# EAGLE library part OPENMV_H7 (library components)
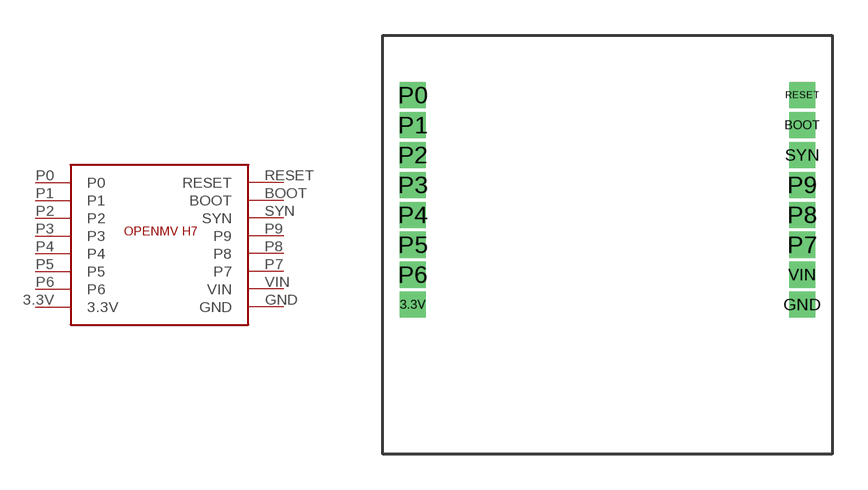
[diagram p0: symbol with the pads of OPENMV_FOOTPRINT; footprint OPENMV_FOOTPRINT]

Designator prefix -

## OPENMV_H7  [OPENMV_FOOTPRINT]
3.3V  3.3V
BOOT  BOOT
GND  GND
P0  P0
P1  P1
P2  P2
P3  P3
P4  P4
P5  P5
P6  P6
P7  P7
P8  P8
P9  P9
RESET  RESET
SYN  SYN
VIN  VIN

## Footprint OPENMV_FOOTPRINT (pad centres in mm)
drill 0.6 square: 3.3V -7.62,-3.81; BOOT 8.89,3.81; GND 8.89,-3.81; P0 -7.62,5.08; P1 -7.62,3.81; P2 -7.62,2.54; P3 -7.62,1.27; P4 -7.62,0; P5 -7.62,-1.27; P6 -7.62,-2.54; P7 8.89,-1.27; P8 8.89,0; P9 8.89,1.27; RESET 8.89,5.08; SYN 8.89,2.54; VIN 8.89,-2.54